# Altium footprint library TI SOT-23-5 DBV.PCBLIB: 1 footprints
Each footprint in its own frame and in the unit in brackets; x right, y up, seen from the top. Pads: shape width x height; smd on the part's side, far side on the other; paste and mask are expansions set on the pad; w line width, h text height; cw(c..) or ccw(c..) is an arc to the next point about the centre after c.
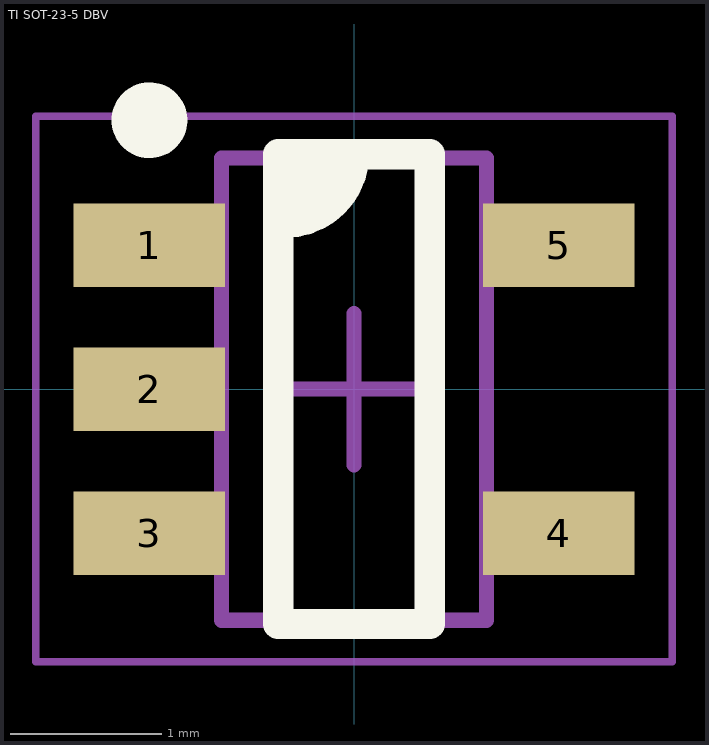
[diagram p0: the footprint, top view; thin cyan lines are the x and y axes]

## TI SOT-23-5 DBV [mm] "SOT23, 5-Leads, Body 2.90x2.80mm, Pitch 0.95mm, IPC Medium Density"
height 1.45
pads (5):
  rect 1x0.55 smd: 1(-1.35,0.95) 2(-1.35,0) 3(-1.35,-0.95) 4(1.35,-0.95) 5(1.35,0.95)
Top Overlay:
  circle w0.25: c-1.35,1.775 r0.125
  region: -0.5,1.55 0,1.55 0,1.4 -0.3,1.1 -0.5,1.1
  lines w0.2: -0.5,1.1 -0.45,1.1 ccw(c-0.45,1.55) 0,1.55 ; -0.5,-1.55 0.5,-1.55 0.5,1.55 -0.5,1.55 -0.5,-1.55
Mechanical 13:
  lines w0.1: -0.875,-1.525 -0.875,1.525 0.875,1.525 0.875,-1.525 -0.875,-1.525
Mechanical 15:
  lines w0.05: -2.1,-1.8 -2.1,1.8 2.1,1.8 2.1,-1.8 -2.1,-1.8
  lines w0.1: -0.5,0 0.5,0 ; 0,-0.5 0,0.5
3D body "SOT-23-5.STEP": height 1.5, standoff 0, extent -1.435,-1.425 1.386,1.475